# Altium footprint library MicroSD_1_altium designer.PcbLib: 1 footprints
Each footprint in its own frame and in the unit in brackets; x right, y up, seen from the top. Pads: shape width x height; smd on the part's side, far side on the other; paste and mask are expansions set on the pad; w line width, h text height; cw(c..) or ccw(c..) is an arc to the next point about the centre after c.
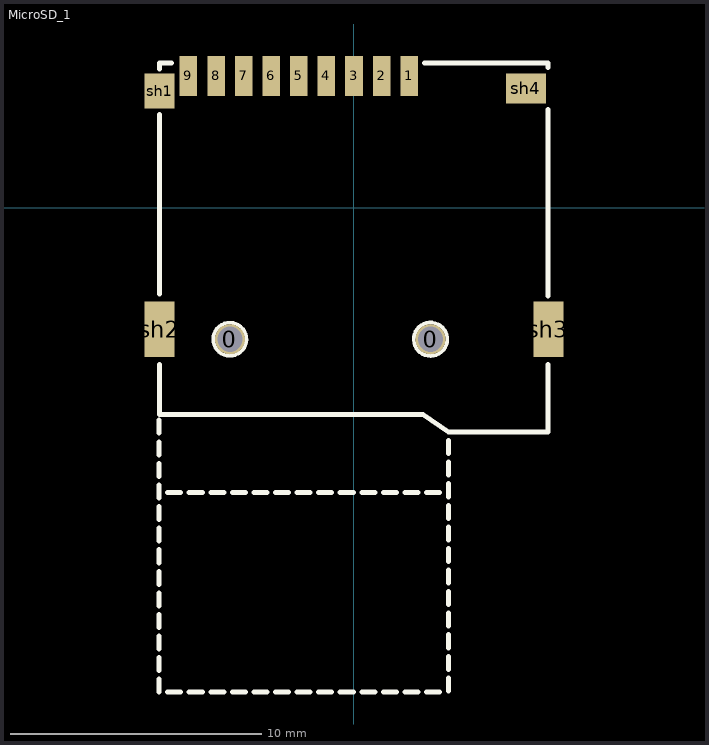
[diagram p0: the footprint, top view; thin cyan lines are the x and y axes]

## MicroSD_1 [mm] "altium designer (M.Hariri)"
pads (15):
  round 1.2 hole 1: 0(-4.95,-5.25) 0(3.05,-5.25)
  rect 0.7x1.6 smd: 1(2.2,5.25) 2(1.1,5.25) 3(0,5.25) 4(-1.1,5.25) 5(-2.2,5.25) 6(-3.3,5.25) 7(-4.4,5.25) 8(-5.5,5.25) 9(-6.6,5.25)
  rect 1.2x1.4 smd: sh1(-7.75,4.65)
  rect 1.2x2.2 smd: sh2(-7.75,-4.85) sh3(7.75,-4.85)
  rect 1.6x1.2 smd: sh4(6.85,4.75)
Top Overlay:
  lines w0.15: -4.297,-5.141 ccw(c-4.95,-5.25) -4.295,-5.151 ; 3.714,-5.187 ccw(c3.05,-5.25) 3.717,-5.261
  lines w0.2: -7.77,-19.32 -7.77,-18.8 ; -7.77,-18.46 -7.77,-17.94 ; -7.77,-17.6 -7.77,-17.08 ; -7.77,-16.74 -7.77,-16.22 ; -7.77,-15.88 -7.77,-15.36 ; -7.77,-15.02 -7.77,-14.5 ; -7.77,-14.16 -7.77,-13.64 ; -7.77,-13.3 -7.77,-12.78 ; -7.77,-12.44 -7.77,-11.92 ; -7.77,-11.58 -7.77,-11.06 ; -7.77,-10.72 -7.77,-10.2 ; -7.77,-9.86 -7.77,-9.34 ; -7.77,-8.98 -7.77,-8.46 ; -7.76,-6.26 -7.76,-8.25 2.75,-8.25 3.76,-8.95 7.74,-8.95 7.74,-6.25 ; -7.76,-3.45 -7.76,3.72 ; -7.76,5.52 -7.76,5.77 -7.28,5.77 ; -7.43,-19.32 -6.91,-19.32 ; -7.43,-11.35 -6.91,-11.35 ; -6.57,-19.32 -6.05,-19.32 ; -6.57,-11.35 -6.05,-11.35 ; -5.71,-19.32 -5.19,-19.32 ; -5.71,-11.35 -5.19,-11.35 ; -4.85,-19.32 -4.33,-19.32 ; -4.85,-11.35 -4.33,-11.35 ; -3.99,-19.32 -3.47,-19.32 ; -3.99,-11.35 -3.47,-11.35 ; -3.13,-19.32 -2.61,-19.32 ; -3.13,-11.35 -2.61,-11.35 ; -2.27,-19.32 -1.75,-19.32 ; -2.27,-11.35 -1.75,-11.35 ; -1.41,-19.32 -0.89,-19.32 ; -1.41,-11.35 -0.89,-11.35 ; -0.55,-19.32 -0.03,-19.32 ; -0.55,-11.35 -0.03,-11.35 ; 0.31,-19.32 0.83,-19.32 ; 0.31,-11.35 0.83,-11.35 ; 1.17,-19.32 1.69,-19.32 ; 1.17,-11.35 1.69,-11.35 ; 2.03,-19.32 2.55,-19.32 ; 2.03,-11.35 2.55,-11.35 ; 2.82,5.77 7.74,5.77 7.74,5.59 ; 2.89,-19.32 3.41,-19.32 ; 2.89,-11.35 3.41,-11.35 ; 3.76,-19.27 3.76,-18.75 ; 3.76,-18.41 3.76,-17.89 ; 3.76,-17.55 3.76,-17.03 ; 3.76,-16.69 3.76,-16.17 ; 3.76,-15.83 3.76,-15.31 ; 3.76,-14.97 3.76,-14.45 ; 3.76,-14.11 3.76,-13.59 ; 3.76,-13.25 3.76,-12.73 ; 3.76,-12.39 3.76,-11.87 ; 3.76,-11.53 3.76,-11.01 ; 3.76,-10.67 3.76,-10.15 ; 3.76,-9.81 3.76,-9.29 ; 7.74,-3.53 7.74,3.9